# Altium footprint library SOTFL127P860X290-8N-1-V.PcbLib: 1 footprints
Each footprint in its own frame and in the unit in brackets; x right, y up, seen from the top. Pads: shape width x height; smd on the part's side, far side on the other; paste and mask are expansions set on the pad; w line width, h text height; cw(c..) or ccw(c..) is an arc to the next point about the centre after c.
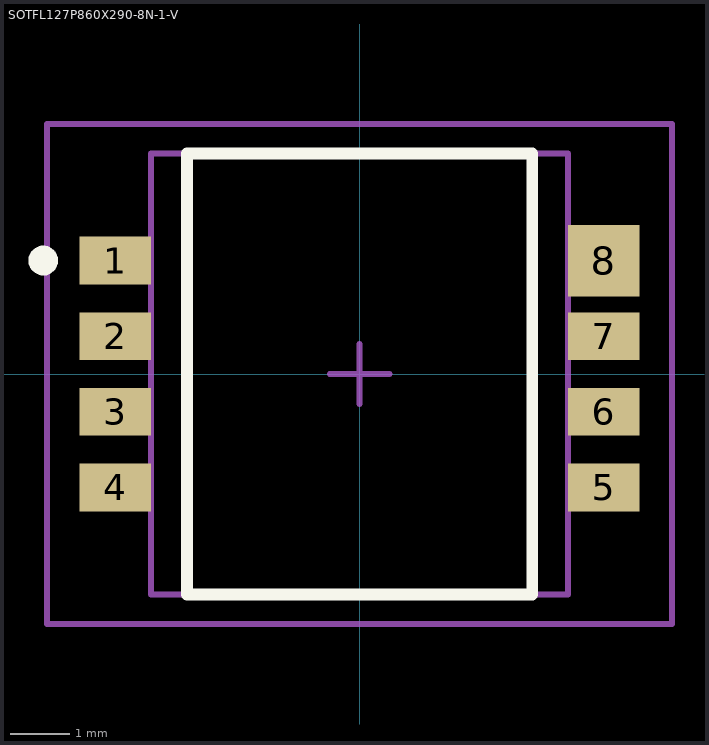
[diagram p0: the footprint, top view; thin cyan lines are the x and y axes]

## SOTFL127P860X290-8N-1-V [mm] "SOTFL, 1.27mm pitch; 8 pin, 7mm W X 7.4mm L X 2.90mm H body"
height 2.9
pads (8):
  rect 1.2x0.8 smd paste+0 mask+0: 1(-4.1,1.905) 2(-4.1,0.635) 3(-4.1,-0.635) 4(-4.1,-1.905) 5(4.1,-1.905) 6(4.1,-0.635) 7(4.1,0.635)
  rect 1.2x1.2 smd paste+0 mask+0: 8(4.1,1.905)
Top Overlay:
  circle w0.25: c-5.31,1.905 r0.125
  lines w0.2: -2.9,-3.7 2.9,-3.7 2.9,3.7 -2.9,3.7 -2.9,-3.7
M3 (ASY_Text_Top):
  text ".DESIGNATOR" at 0,0 h1.2
M13 (CMP_Body_OTL_Top):
  lines w0.1: -3.5,-3.7 -3.5,3.7 3.5,3.7 3.5,-3.7 -3.5,-3.7
M15 (CMP_Courtyard_Top):
  lines w0.1: -0.5,0 0.5,0 ; 0,-0.5 0,0.5 ; -5.25,-4.2 -5.25,4.2 5.25,4.2 5.25,-4.2 -5.25,-4.2
3D body "PG-DSOF-8-16.stp": height 2.8, standoff 0, extent -4.3,-3.7 4.3,3.7